# Altium schematic symbol library SRD-05VDC-SL-C.SchLib: 1 symbol
Pins are listed as number, name and electrical type; pins without a type are passive.

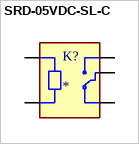
[diagram p0: symbol SRD-05VDC-SL-C]

## SRD-05VDC-SL-C
designator K?
5V Trigger Relay Module For Arduino And Raspberry Pi 5V Trigger Relay Module For Arduino And Raspberry Pi; MF: {'manufacturer': u'Songle Relay'}; MP: SRD-05VDC-SL-C; Price: None; Value: *; Package: None; Availability: Unavailable
footprint RELAY_SRD-05VDC-SL-C
pins: A1, A2, COM, NC, NO